# EAGLE library part SLB-0587 (library #PaJa_30)
Obvod pro rizeni triaku -
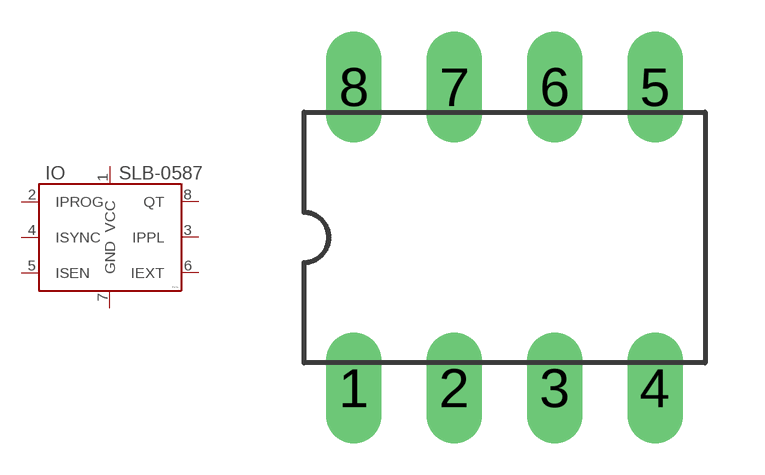
[diagram p41: symbol with the pads of DIL8; footprint DIL8]

Designator prefix IO

## SLB-0587  [DIL8]
1  VCC  pwr
2  IPROG  in
3  IPPL  pas
4  ISYNC  in
5  ISEN  in
6  IEXT  in
7  GND  pwr
8  QT  out

## Footprint DIL8 (pad centres in mm)
drill 0.813 pad 1.4 long: 1 -3.81,-3.81; 2 -1.27,-3.81; 3 1.27,-3.81; 4 3.81,-3.81; 5 3.81,3.81; 6 1.27,3.81; 7 -1.27,3.81; 8 -3.81,3.81